# EAGLE library part LUXDRIVE-PINNED (library Synapseware)
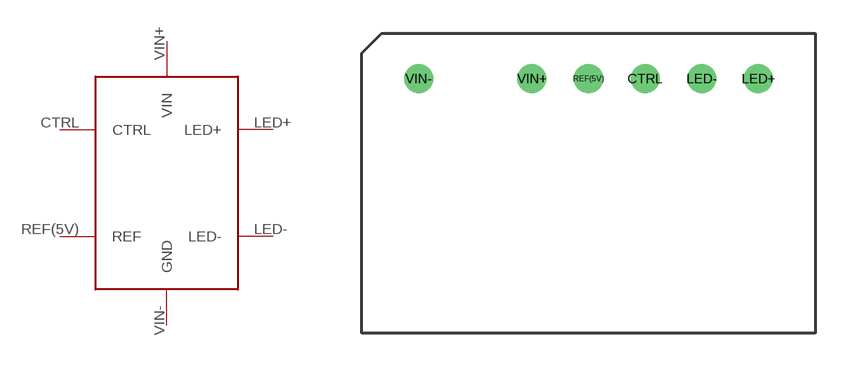
[diagram p17: symbol with the pads of LUXDRIVE-BUCKPUCK-PINNED; footprint LUXDRIVE-BUCKPUCK-PINNED]

Designator prefix -

## LUXDRIVE-PINNED  [LUXDRIVE-BUCKPUCK-PINNED]
CTRL  CTRL
LED+  LED+
LED-  LED-
REF(5V)  REF
VIN+  VIN
VIN-  GND

## Footprint LUXDRIVE-BUCKPUCK-PINNED (pad centres in mm)
drill 0.8: CTRL 10.16,0; LED+ 15.24,0; LED- 12.7,0; REF(5V) 7.62,0; VIN+ 5.08,0; VIN- 0,0